# EAGLE library part DAC7760/8760 (library m_ic-signal)
DACx760 Single-Channel, 12- and 16-Bit Programmable Current and Voltage Output Digital-to-Analog Converters for 4-mA to 20-mA Current Loop Applications Features Current Output: 4 mA to 20 mA; 0 mA to 20 mA; 0 mA to 24 mA Voltage Output: 0V to 5V; 0V to 10V; ±5V; ±10V 0V to 5.5V; 0V to 11V; ±5.5V; ±11V (10% Over Range) ±0.1% FSR Total Unadjusted Error (TUE) Maximum DNL: ±1 LSB Maximum Simultaneous Voltage and Current Output Internal 5-V Reference (10 ppm/°C, Maximum) Internal 4.6-V Power-Supply Output Reliability Features: CRC Check and Watchdog Timer Thermal Alarm Open Alarm, Short Current Limit Wide Temperature Range: –40°C to 125°C 6-mm × 6-mm 40-Pin VQFN and 24-Pin HTSSOP Packages Description The DAC7760 and DAC8760 are low-cost, precision, fully-integrated, 12-bit and 16-bit digital-to-analog converters (DACs) designed to meet the requirements of industrial process-control applications. These devices can be programmed as a current output with a range of 4 mA to 20 mA, 0 mA to 20 mA, or 0 mA to 24 mA; or as a voltage output with a range of 0 V to 5 V, 0 V to 10 V, ±5 V, or ±10 V with a 10% overrange (0 V to 5.5 V, 0 V to 11 V, ±5.5 V, or ±11 V). Both current and voltage outputs can be simultaneously enabled while being controlled by a single data register. These devices include a power-on-reset function to ensure powering up in a known state (both IOUT and VOUT are disabled and in a Hi-Z state). The CLR and CLR-SEL pins set the voltage outputs to zero- scale or midscale, and the current output to the low end of the range, if the output is enabled. Zero and gain registers can be programmed to digitally calibrate the device in the end system. The output slew rate is also programmable by register. These devices can superimpose an external HART® signal on the current output and can operate with either a single 10-V to 36-V supply, or dual supplies of up to ±18 V. All versions are available in both 6-mm × 6-mm 40-pin VQFN and 24-pin HTSSOP packages. Octopart Search <https://octopart.com/search?q=DAC%3F760*> Added 2019-09-02
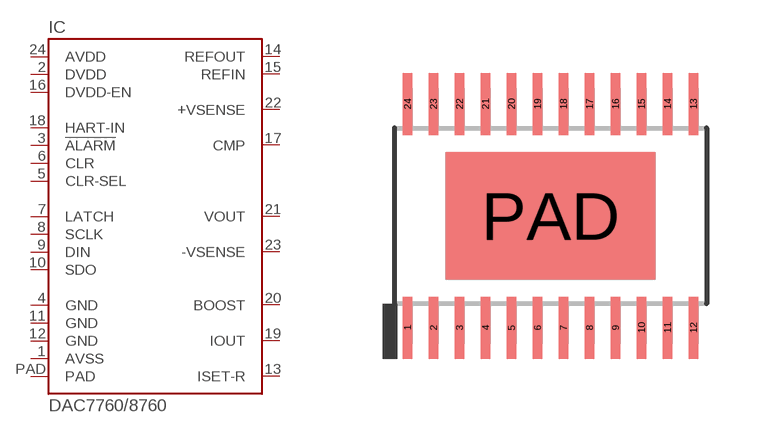
[diagram p12: symbol with the pads of R-PDSO-G24; footprint R-PDSO-G24]

Designator prefix IC

## DAC7760/8760PWP (MANUF: TI; PARTNUM: DAC?760IPWP*; VALUE: DAC?760)  [R-PDSO-G24]
1  AVSS  pas
2  DVDD  pas
3  !ALARM  pas
4  GND  pas
5  CLR-SEL  pas
6  CLR  pas
7  LATCH  pas
8  SCLK  pas
9  DIN  pas
10  SDO  pas
11  GND  pas
12  GND  pas
13  ISET-R  pas
14  REFOUT  pas
15  REFIN  pas
16  DVDD-EN  pas
17  CMP  pas
18  HART-IN  pas
19  IOUT  pas
20  BOOST  pas
21  VOUT  pas
22  +VSENSE  pas
23  -VSENSE  pas
24  AVDD  pas
PAD  PAD  pas

## Footprint R-PDSO-G24 (pad centres in mm)
R-PDSO-G24 PowerPAD Plastic Small Outline Based on TI drawings 4073225-5/1 05/11, 4207609-24/W 09/15, and 4206332-46/A0 01/16. Added 2019-09-01
smd 0.25 x 1.55: 1 -3.575,-2.8; 2 -2.925,-2.8; 3 -2.275,-2.8; 4 -1.625,-2.8; 5 -0.975,-2.8; 6 -0.325,-2.8; 7 0.325,-2.8; 8 0.975,-2.8; 9 1.625,-2.8; 10 2.275,-2.8; 11 2.925,-2.8; 12 3.575,-2.8; 13 3.575,2.8; 14 2.925,2.8; 15 2.275,2.8; 16 1.625,2.8; 17 0.975,2.8; 18 0.325,2.8; 19 -0.325,2.8; 20 -0.975,2.8; 21 -1.625,2.8; 22 -2.275,2.8; 23 -2.925,2.8; 24 -3.575,2.8
smd 5.26 x 3.2: PAD 0,0